# Altium schematic symbol library CF_ESP32_S3_CAM_BOARD.SchLib: 3 symbols
Pins are listed as number, name and electrical type; pins without a type are passive.

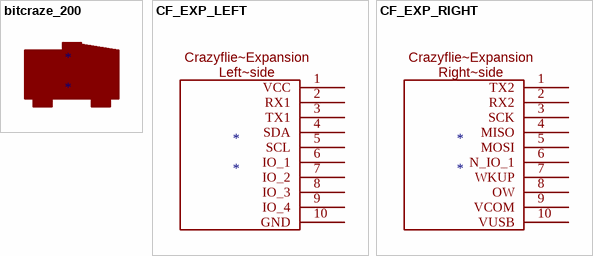
[diagram p0: symbols bitcraze_200 to CF_EXP_RIGHT]

## bitcraze_200
designator *

## CF_EXP_LEFT
designator *
pins: 1 VCC, 2 RX1, 3 TX1, 4 SDA, 5 SCL, 6 IO_1, 7 IO_2, 8 IO_3, 9 IO_4, 10 GND
text: Crazyflie~Expansion; Left~side

## CF_EXP_RIGHT
designator *
pins: 1 TX2, 2 RX2, 3 SCK, 4 MISO, 5 MOSI, 6 N_IO_1, 7 WKUP, 8 OW, 9 VCOM, 10 VUSB
text: Crazyflie~Expansion; Right~side